# EAGLE library part TPG-112-2X12V (library balmer)
Transformator mit Mittelanzapfung
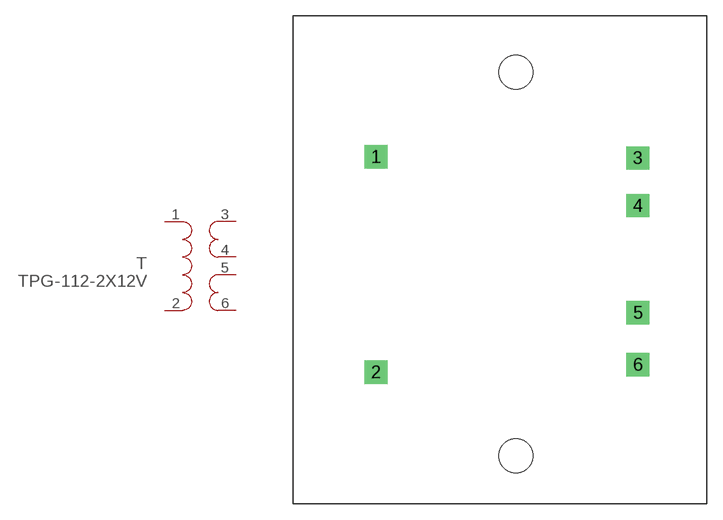
[diagram p3: symbol with the pads of TPG-112-2X12V; footprint TPG-112-2X12V]

Designator prefix T

## TPG-112-2X12V  [TPG-112-2X12V]
1  1  pas
2  2  pas
3  3  pas
4  4  pas
5  5  pas
6  6  pas

## Footprint TPG-112-2X12V (pad centres in mm)
Dummy
drill 0.8 pad 2.184 square: 1 7.8,32.705; 2 7.8,12.395; 3 32.5,32.6; 4 32.5,28.1; 5 32.5,18; 6 32.5,13.1
hole 3.2 at 21,4.5
hole 3.2 at 21,40.7